# Altium footprint library SOT523.PcbLib: 1 footprints
Each footprint in its own frame and in the unit in brackets; x right, y up, seen from the top. Pads: shape width x height; smd on the part's side, far side on the other; paste and mask are expansions set on the pad; w line width, h text height; cw(c..) or ccw(c..) is an arc to the next point about the centre after c.
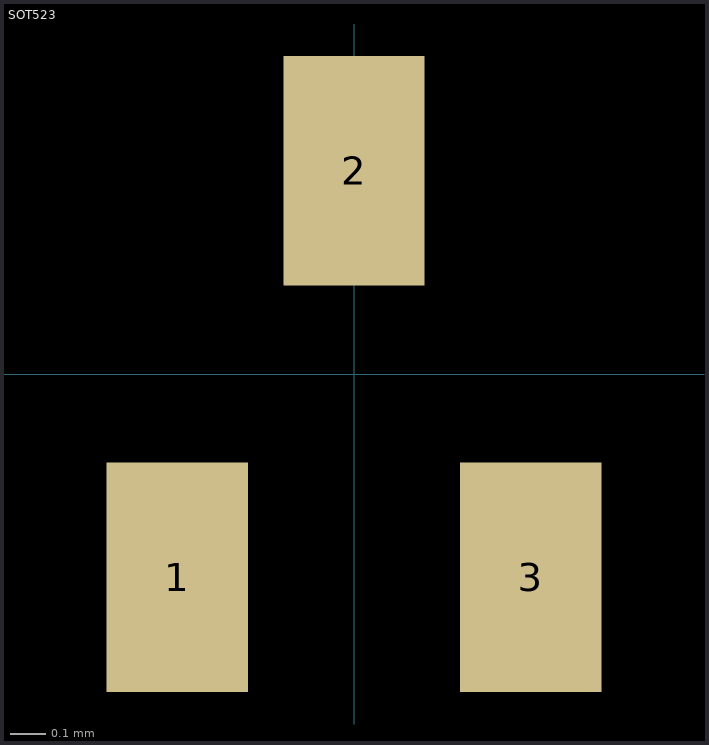
[diagram p0: the footprint, top view; thin cyan lines are the x and y axes]

## SOT523 [mm]
pads (3):
  rect 0.4x0.65 smd: 1(-0.5,-0.575) 2(0,0.575) 3(0.5,-0.575)
3D body: height 0.8, standoff 0, extent -0.8,-0.8 0.8,0.8